# Altium footprint library Station-Link1.PcbLib: 11 footprints
Each footprint in its own frame and in the unit in brackets; x right, y up, seen from the top. Pads: shape width x height; smd on the part's side, far side on the other; paste and mask are expansions set on the pad; w line width, h text height; cw(c..) or ccw(c..) is an arc to the next point about the centre after c.
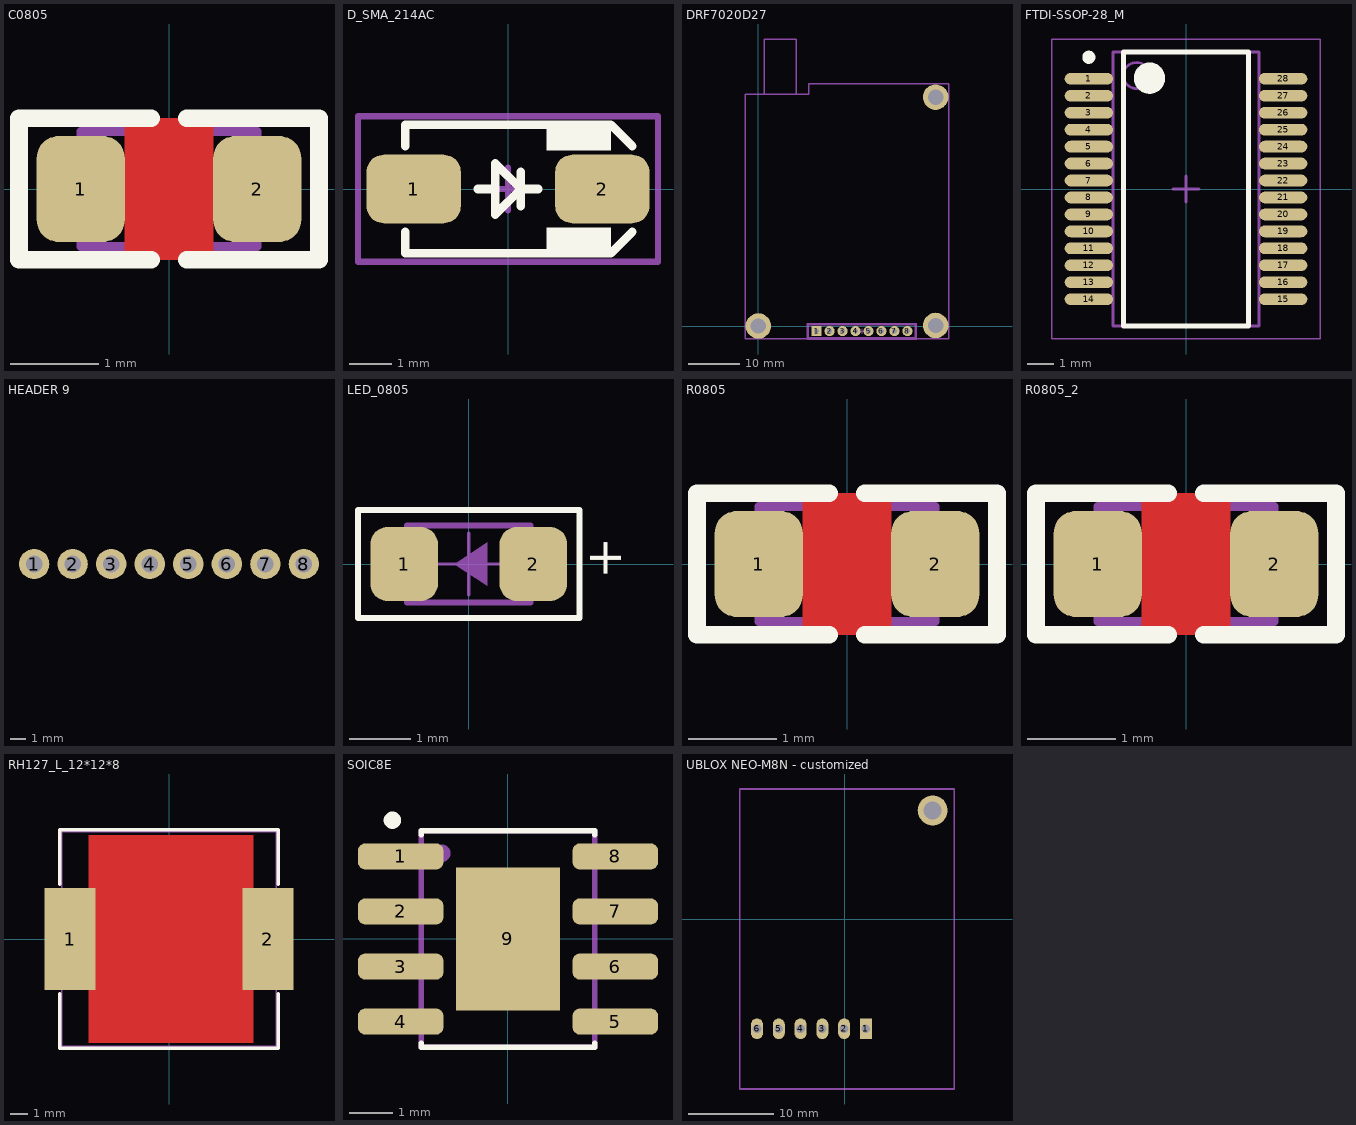
[diagram p0: the footprints below, top view; thin cyan lines are the x and y axes]

## C0805 [mm] "CHIP Capacitor, 2.0X1.3mm, 0805"
pads (2):
  rrect50% 1x1.2 smd mask+0.075: 1(-1,0) 2(1,0)
Top Layer:
  pour cut-out: -0.5,0.8 0.5,0.8 0.5,-0.8 -0.5,-0.8
Top Overlay:
  lines w0.2: -0.2,-0.8 -1.7,-0.8 -1.7,0.8 -0.2,0.8 ; 0.2,-0.8 1.7,-0.8 1.7,0.8 0.2,0.8
Top 3D Body:
  lines w0.1: -1,-0.65 1,-0.65 1,0.65 -1,0.65 -1,-0.65
3D body "cap 0805.STEP": height 0.65, standoff 0, extent -1.016,-0.635 1.016,0.635

## D_SMA_214AC [mm] "SMA Molded Diode, 2-Leads, Body 4.3x2.7mm"
height 2.4
pads (2):
  rrect50% 2.2x1.6 smd: 1(-2.2,0) 2(2.2,0)
Top Overlay:
  rectangle: 0.9,-1.5 2.4,-0.9
  rectangle: 0.901,0.898 2.401,1.498
  lines w0.2: -2.4,-1 -2.4,-1.5 2.4,-1.5 2.9,-1 ; -2.4,1 -2.4,1.5 2.4,1.5 2.9,1 ; -0.7,0 -0.3,0 ; 0.3,-0.4 0.3,0.4 ; 0.7,0 0.3,0 ; 0.3,0 -0.3,-0.6 -0.3,0.6 0.3,0
Top Courtyard:
  lines w0.15: -0.5,0 0.5,0 ; 0,-0.5 0,0.5 ; -3.5,-1.7 -3.5,1.7 3.5,1.7 3.5,-1.7 -3.5,-1.7
3D body "User Library-DIOM5528X26.step": height 2.6, standoff 0.03, extent -2.7,-1.4 2.8,1.4

## DRF7020D27 [mm]
height 5
pads (11):
  rect 2x2 hole 1.02: 1(11.42,-0.975)
  round 2 hole 1.02: 2(13.96,-0.975) 3(16.5,-0.975) 4(19.04,-0.975) 5(21.58,-0.975) 6(24.12,-0.975) 7(26.66,-0.975) 8(29.2,-0.975)
  round 5 hole 3: ""(0.02,0.025) ""(34.72,0.125) ""(34.72,44.825)
Top 3D Body:
  lines w0.1: 9.9,-2.225 30.72,-2.225 30.72,0.275 9.9,0.275 9.9,-2.225
Top Courtyard:
  lines w0.05: 19.81,-0.975 20.81,-0.975 ; 20.31,-1.475 20.31,-0.475 ; 9.575,-2.525 31.045,-2.525 31.045,0.575 9.575,0.575 9.575,-2.525
  lines w0.2: 9.775,-2.325 9.775,0.375 30.845,0.375 30.845,-2.325 9.775,-2.325
  lines w0.254: -2.58,45.425 7.92,45.425 9.92,45.425 ; -2.58,45.425 9.92,45.425 ; -2.58,45.425 -2.58,-2.475 37.32,-2.475 37.32,47.425 9.92,47.425 ; 9.92,45.425 9.92,47.425 ; 9.92,45.425 9.92,47.425 ; 1.22,45.425 1.22,56.2 7.42,56.2 7.42,45.425 1.22,45.425
3D body "61300811821.stp": height 8.55, standoff -3.06, extent 9.9,-2.225 30.72,0.275
3D body: height 10, standoff 8, extent -2.505,-2.525 37.495,47.425
3D body: height 12.54, standoff 7.46, extent 1.8,45.25 6.88,55.75

## FTDI-SSOP-28_M [mm] "SOP, 28-Leads, Body 10.5x5.6mm, Pitch 0.65mm, IPC Low Density"
height 2
pads (28):
  oval 1.85x0.45 smd: 1(-3.725,4.225) 2(-3.725,3.575) 3(-3.725,2.925) 4(-3.725,2.275) 5(-3.725,1.625) 6(-3.725,0.975) 7(-3.725,0.325) 8(-3.725,-0.325) 9(-3.725,-0.975) 10(-3.725,-1.625) 11(-3.725,-2.275) 12(-3.725,-2.925) 13(-3.725,-3.575) 14(-3.725,-4.225) 15(3.725,-4.225) 16(3.725,-3.575) 17(3.725,-2.925) 18(3.725,-2.275) 19(3.725,-1.625) 20(3.725,-0.975) 21(3.725,-0.325) 22(3.725,0.325) 23(3.725,0.975) 24(3.725,1.625) 25(3.725,2.275) 26(3.725,2.925) 27(3.725,3.575) 28(3.725,4.225)
Top Overlay:
  circle w0.25: c-3.725,5.05 r0.125
  circle w0.6: c-1.4,4.25 r0.3
  lines w0.2: -2.4,-5.25 -2.4,5.25 2.4,5.25 2.4,-5.25 -2.4,-5.25
Top 3D Body:
  circle w0.1: c-1.9,4.35 r0.5
  lines w0.1: -2.8,-5.25 -2.8,5.25 2.8,5.25 2.8,-5.25 -2.8,-5.25
Top Courtyard:
  lines w0.05: -5.15,-5.75 -5.15,5.75 5.15,5.75 5.15,-5.75 -5.15,-5.75
  lines w0.1: -0.5,0 0.5,0 ; 0,-0.5 0,0.5
3D body "SOP65P780X200-28M.step": height 2, standoff 0, extent -3.9,-5.25 3.9,5.25

## HEADER 9 [mm]
pads (8):
  round 2 hole 1.1: 1(25.654,22.352) 2(28.194,22.352) 3(30.734,22.352) 4(33.274,22.352) 5(35.814,22.352) 6(38.354,22.352) 7(40.894,22.352) 8(43.434,22.352)

## LED_0805 [mm] "SMD Mono-color Chip LED, body 2.0x1.25mm"
height 0.8
pads (2):
  rrect50% 1.1x1.2 smd: 1(-1.05,0) 2(1.05,0)
Top Overlay:
  lines w0.1: -1.8,-0.875 -1.8,0.875 1.8,0.875 1.8,-0.875 -1.8,-0.875
  text "+" at 2.475,-0.25 h0.6
Top 3D Body:
  region: -0.233,0 0.3,-0.35 0.3,0.35
  lines w0.1: -1,-0.625 1,-0.625 1,0.625 -1,0.625 -1,-0.625
Top Courtyard:
  lines w0.05: -0.5,0 0.5,0 ; 0,-0.5 0,0.5
3D body "150080xS75000.stp": height 0.7, standoff 0, extent -1,-0.625 1,0.625

## R0805 [mm] "CHIP RESISTOR 1/8 WATT ,2.0X1.3mm, 0805, 2012"
height 5
pads (2):
  rrect50% 1x1.2 smd mask+0.05: 1(-1,0) 2(1,0)
Top Layer:
  pour cut-out: -0.5,0.8 0.5,0.8 0.5,-0.8 -0.5,-0.8
Top Overlay:
  lines w0.2: -0.2,-0.8 -1.7,-0.8 -1.7,0.8 -0.2,0.8 ; 0.2,-0.8 1.7,-0.8 1.7,0.8 0.2,0.8
Top 3D Body:
  lines w0.1: -1,-0.65 1,-0.65 1,0.65 -1,0.65 -1,-0.65
3D body "0805.STEP": height 0.6, standoff 0, extent -1.016,-0.635 1.016,0.635

## R0805_2 [mm]
pads (2):
  rrect50% 1x1.2 smd mask+0.05: 1(-1,0) 2(1,0)
Top Layer:
  pour cut-out: -0.5,0.8 0.5,0.8 0.5,-0.8 -0.5,-0.8
Top Overlay:
  lines w0.2: -0.2,-0.8 -1.7,-0.8 -1.7,0.8 -0.2,0.8 ; 0.2,-0.8 1.7,-0.8 1.7,0.8 0.2,0.8
Top 3D Body:
  lines w0.1: -1,-0.65 -1,0.65 1,0.65 1,-0.65 -1,-0.65
3D body "0805.STEP": height 0.6, standoff 0, extent -1.016,-0.635 1.016,0.635

## RH127_L_12*12*8 [mm] "INDUCTOR, 13.5x12.5mm, DR125, CDRH127, D128C 931AS"
height 7
pads (2):
  rect 3x6 smd: 1(-5.8,0) 2(5.8,0)
Top Layer:
  pour cut-out: -4.699,6.096 4.953,6.096 4.953,-6.096 -4.699,-6.096
Top Overlay:
  lines w0.2: -6.4,-3.2 -6.4,-6.4 6.4,-6.4 6.4,-3.2 ; -6.4,3.2 -6.4,6.4 6.4,6.4 6.4,3.2
Top 3D Body:
  lines w0.1: -6.3,-6.3 -6.3,6.3 6.3,6.3 6.3,-6.3 -6.3,-6.3
3D body "User Library-D128C.step": height 8.16, standoff 0, extent -6.158,-6.15 6.158,6.15

## SOIC8E [mm]
height 5
pads (9):
  rrect54% 1.97x0.6 smd: 1(-2.475,1.905) 2(-2.475,0.635) 3(-2.475,-0.635) 4(-2.475,-1.905) 5(2.475,-1.905) 6(2.475,-0.635) 7(2.475,0.635) 8(2.475,1.905)
  rect 2.41x3.3 smd paste-3: 9(0,0)
Top Overlay:
  circle w0.2: c-2.667,2.74 r0.1
  lines w0.127: -2,-2.4 -2,-2.5 2,-2.5 2,-2.4 ; -2,2.4 -2,2.5 2,2.5 2,2.4
Top Paste:
  region: 0.935,0.135 0.135,0.135 0.135,1.375 0.935,1.375
  region: 0.935,-1.377 0.135,-1.377 0.135,-0.135 0.935,-0.135
  region: -0.135,-1.378 -0.937,-1.378 -0.937,-0.135 -0.135,-0.135
  region: -0.135,0.135 -0.937,0.135 -0.937,1.375 -0.135,1.375
Top 3D Body:
  circle w0.2: c-1.524,1.978 r0.1
  lines w0.127: -2,-2.5 2,-2.5 2,2.5 -2,2.5 -2,-2.5
3D body "MP1584EN.STEP": height 1.7, standoff 0, extent -2.997,-2.451 2.997,2.451

## UBLOX NEO-M8N - customized [mm]
height 5
pads (7):
  rect 1.4x2.4 hole 1.02: 1(2.45,-12.762)
  oval 1.4x2.4 hole 1.02: 2(-0.09,-12.762) 3(-2.63,-12.762) 4(-5.17,-12.762) 5(-7.71,-12.762) 6(-10.25,-12.762)
  round 3.5 hole 2.1: ""(10.25,12.712)
Mechanical 1:
  lines w0.2: -12.25,-19.788 -12.25,15.212 12.75,15.212 12.75,-19.788 -12.25,-19.788
3D body: height 12.6, standoff 11, extent -12.25,-19.763 12.75,15.212
3D body "Header6.STEP": height 13.54, standoff 2.62, extent -11.07,-14.163 4.17,-11.623
3D body "PPTC061LFBNRC--3DModel-STEP-56544.STEP": height 8.51, standoff -3.2, extent -11.625,-14.163 4.123,-11.623
3D body "SMA-J-P-H-RA-TH1--3DModel-STEP-56544.STEP": height 22.36, standoff 8.56, extent 5.2,-27.25 12.2,-12.15